# Altium schematic symbol library NX3008PBK,215.Schlib: 1 symbol
Pins are listed as number, name and electrical type; pins without a type are passive.

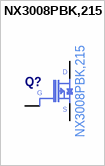
[diagram p0: symbol NX3008PBK,215]

## NX3008PBK,215
designator Q?
pins: 1 G, 2 S, 3 D